# EAGLE library part QSH-030-01-X-D-A (library QSH-030-01-X-D-A)
HIGH SPEED SOCKET STRIP, .5mm PITCH, 60 PINS. MANUFACTURER:SAMTEC.
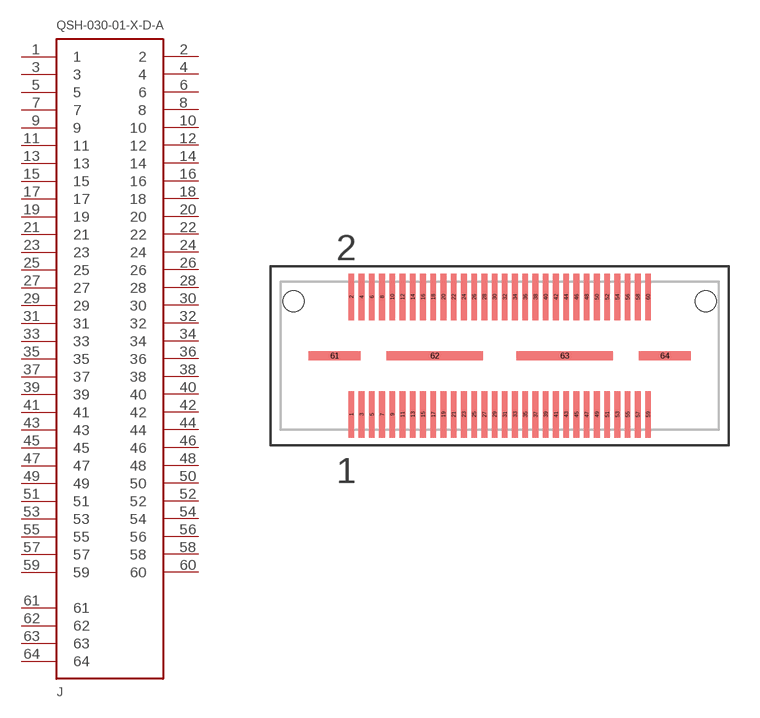
[diagram p0: symbol with the pads of QSH-030-01-X-D-A; footprint QSH-030-01-X-D-A]

Designator prefix J

## QSH-030-01-X-D-A  [QSH-030-01-X-D-A]
1  1
2  2
3  3
4  4
5  5
6  6
7  7
8  8
9  9
10  10
11  11
12  12
13  13
14  14
15  15
16  16
17  17
18  18
19  19
20  20
21  21
22  22
23  23
24  24
25  25
26  26
27  27
28  28
29  29
30  30
31  31
32  32
33  33
34  34
35  35
36  36
37  37
38  38
39  39
40  40
41  41
42  42
43  43
44  44
45  45
46  46
47  47
48  48
49  49
50  50
51  51
52  52
53  53
54  54
55  55
56  56
57  57
58  58
59  59
60  60
61  61  pwr
62  62  pwr
63  63  pwr
64  64  pwr

## Footprint QSH-030-01-X-D-A (pad centres in mm)
HIGH SPEED SOCKET STRIP, .5mm PITCH, 60 PINS. MANUFACTURER:SAMTEC.
smd 0.28 x 2.27: 1 -7.25,-2.87; 2 -7.25,2.87; 3 -6.75,-2.87; 4 -6.75,2.87; 5 -6.25,-2.87; 6 -6.25,2.87; 7 -5.75,-2.87; 8 -5.75,2.87; 9 -5.25,-2.87; 10 -5.25,2.87; 11 -4.75,-2.87; 12 -4.75,2.87; 13 -4.25,-2.87; 14 -4.25,2.87; 15 -3.75,-2.87; 16 -3.75,2.87; 17 -3.25,-2.87; 18 -3.25,2.87; 19 -2.75,-2.87; 20 -2.75,2.87; 21 -2.25,-2.87; 22 -2.25,2.87; 23 -1.75,-2.87; 24 -1.75,2.87; 25 -1.25,-2.87; 26 -1.25,2.87; 27 -0.75,-2.87; 28 -0.75,2.87; 29 -0.25,-2.87; 30 -0.25,2.87; 31 0.25,-2.87; 32 0.25,2.87; 33 0.75,-2.87; 34 0.75,2.87; 35 1.25,-2.87; 36 1.25,2.87; 37 1.75,-2.87; 38 1.75,2.87; 39 2.25,-2.87; 40 2.25,2.87; 41 2.75,-2.87; 42 2.75,2.87; 43 3.25,-2.87; 44 3.25,2.87; 45 3.75,-2.87; 46 3.75,2.87; 47 4.25,-2.87; 48 4.25,2.87; 49 4.75,-2.87; 50 4.75,2.87; 51 5.25,-2.87; 52 5.25,2.87; 53 5.75,-2.87; 54 5.75,2.87; 55 6.25,-2.87; 56 6.25,2.87; 57 6.75,-2.87; 58 6.75,2.87; 59 7.25,-2.87; 60 7.25,2.87
smd 2.54 x 0.43: 61 -8.065,0; 64 8.065,0
smd 4.7 x 0.43: 62 -3.175,0; 63 3.175,0
hole 1.02 at -10.065,2.67
hole 1.02 at 10.065,2.67